# EAGLE library part LTC-4724JR (library library)
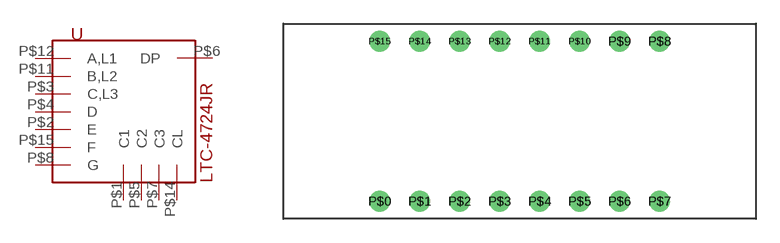
[diagram p3: symbol with the pads of LTC-4724JR; footprint LTC-4724JR]

Designator prefix U

## LTC-4724JR  [LTC-4724JR]
P$1  C1
P$2  E  in
P$3  C,L3  in
P$4  D  in
P$5  C2
P$6  DP  in
P$7  C3
P$8  G  in
P$11  B,L2  in
P$12  A,L1  in
P$14  CL
P$15  F  in

## Footprint LTC-4724JR (pad centres in mm)
drill 0.8: P$0 -8.89,-5.08; P$1 -6.35,-5.08; P$2 -3.81,-5.08; P$3 -1.27,-5.08; P$4 1.27,-5.08; P$5 3.81,-5.08; P$6 6.35,-5.08; P$7 8.89,-5.08; P$8 8.89,5.08; P$9 6.35,5.08; P$10 3.81,5.08; P$11 1.27,5.08; P$12 -1.27,5.08; P$13 -3.81,5.08; P$14 -6.35,5.08; P$15 -8.89,5.08